# Altium footprint library R7S921041VCBGBC0.PcbLib: 3 footprints
Each footprint in its own frame and in the unit in brackets; x right, y up, seen from the top. Pads: shape width x height; smd on the part's side, far side on the other; paste and mask are expansions set on the pad; w line width, h text height; cw(c..) or ccw(c..) is an arc to the next point about the centre after c.
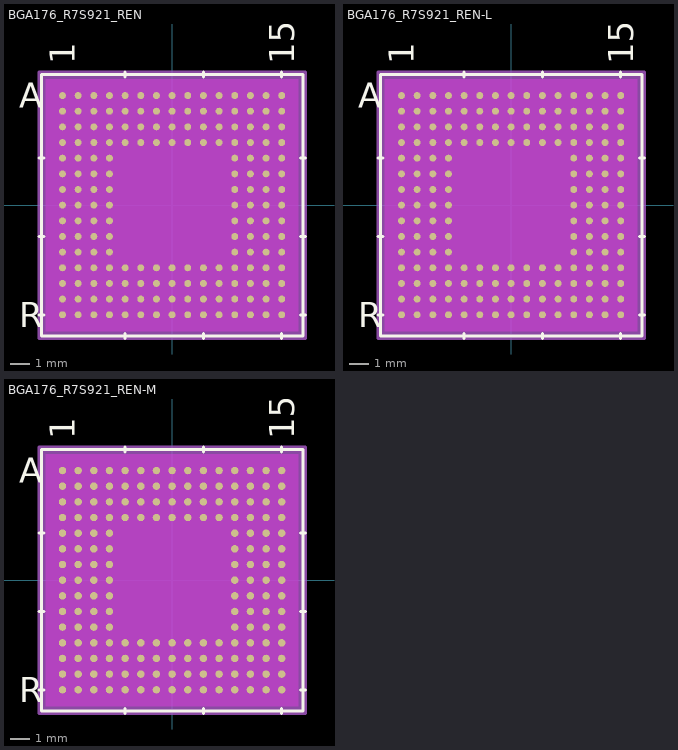
[diagram p0: the footprints below, top view; thin cyan lines are the x and y axes]

## BGA176_R7S921_REN [mil]
pads (176):
  round 14 smd paste+0 mask+0: A1(-220.5,220.5) A2(-189,220.5) A3(-157.5,220.5) A4(-126,220.5) A5(-94.5,220.5) A6(-63,220.5) A7(-31.5,220.5) A8(0,220.5) A9(31.5,220.5) A10(63,220.5) A11(94.5,220.5) A12(126,220.5) A13(157.5,220.5) A14(189,220.5) A15(220.5,220.5) B1(-220.5,189) B2(-189,189) B3(-157.5,189) B4(-126,189) B5(-94.5,189) B6(-63,189) B7(-31.5,189) B8(0,189) B9(31.5,189) B10(63,189) B11(94.5,189) B12(126,189) B13(157.5,189) B14(189,189) B15(220.5,189) C1(-220.5,157.5) C2(-189,157.5) C3(-157.5,157.5) C4(-126,157.5) C5(-94.5,157.5) C6(-63,157.5) C7(-31.5,157.5) C8(0,157.5) C9(31.5,157.5) C10(63,157.5) C11(94.5,157.5) C12(126,157.5) C13(157.5,157.5) C14(189,157.5) C15(220.5,157.5) D1(-220.5,126) D2(-189,126) D3(-157.5,126) D4(-126,126) D5(-94.5,126) D6(-63,126) D7(-31.5,126) D8(0,126) D9(31.5,126) D10(63,126) D11(94.5,126) D12(126,126) D13(157.5,126) D14(189,126) D15(220.5,126) E1(-220.5,94.5) E2(-189,94.5) E3(-157.5,94.5) E4(-126,94.5) E12(126,94.5) E13(157.5,94.5) E14(189,94.5) E15(220.5,94.5) F1(-220.5,63) F2(-189,63) F3(-157.5,63) F4(-126,63) F12(126,63) F13(157.5,63) F14(189,63) F15(220.5,63) G1(-220.5,31.5) G2(-189,31.5) G3(-157.5,31.5) G4(-126,31.5) G12(126,31.5) G13(157.5,31.5) G14(189,31.5) G15(220.5,31.5) H1(-220.5,0) H2(-189,0) H3(-157.5,0) H4(-126,0) H12(126,0) H13(157.5,0) H14(189,0) H15(220.5,0) J1(-220.5,-31.5) J2(-189,-31.5) J3(-157.5,-31.5) J4(-126,-31.5) J12(126,-31.5) J13(157.5,-31.5) J14(189,-31.5) J15(220.5,-31.5) K1(-220.5,-63) K2(-189,-63) K3(-157.5,-63) K4(-126,-63) K12(126,-63) K13(157.5,-63) K14(189,-63) K15(220.5,-63) L1(-220.5,-94.5) L2(-189,-94.5) L3(-157.5,-94.5) L4(-126,-94.5) L12(126,-94.5) L13(157.5,-94.5) L14(189,-94.5) L15(220.5,-94.5) M1(-220.5,-126) M2(-189,-126) M3(-157.5,-126) M4(-126,-126) M5(-94.5,-126) M6(-63,-126) M7(-31.5,-126) M8(0,-126) M9(31.5,-126) M10(63,-126) M11(94.5,-126) M12(126,-126) M13(157.5,-126) M14(189,-126) M15(220.5,-126) N1(-220.5,-157.5) N2(-189,-157.5) N3(-157.5,-157.5) N4(-126,-157.5) N5(-94.5,-157.5) N6(-63,-157.5) N7(-31.5,-157.5) N8(0,-157.5) N9(31.5,-157.5) N10(63,-157.5) N11(94.5,-157.5) N12(126,-157.5) N13(157.5,-157.5) N14(189,-157.5) N15(220.5,-157.5) P1(-220.5,-189) P2(-189,-189) P3(-157.5,-189) P4(-126,-189) P5(-94.5,-189) P6(-63,-189) P7(-31.5,-189) P8(0,-189) P9(31.5,-189) P10(63,-189) P11(94.5,-189) P12(126,-189) P13(157.5,-189) P14(189,-189) P15(220.5,-189) R1(-220.5,-220.5) R2(-189,-220.5) R3(-157.5,-220.5) R4(-126,-220.5) R5(-94.5,-220.5) R6(-63,-220.5) R7(-31.5,-220.5) R8(0,-220.5) R9(31.5,-220.5) R10(63,-220.5) R11(94.5,-220.5) R12(126,-220.5) R13(157.5,-220.5) R14(189,-220.5) R15(220.5,-220.5)
Top Overlay:
  lines w6: -268,-220.5 -258,-220.5 ; -268,-63 -258,-63 ; -268,94.5 -258,94.5 ; -94.5,-268 -94.5,-258 ; -94.5,258 -94.5,268 ; 63,-268 63,-258 ; 63,258 63,268 ; 220.5,-268 220.5,-258 ; 220.5,258 220.5,268 ; 258,-220.5 268,-220.5 ; 258,-63 268,-63 ; 258,94.5 268,94.5 ; -263,-263 263,-263 263,263 -263,263 -263,-263
  text "A" at -308,195.5 h50
  text "R" at -308,-245.5 h50
  text "1" at -195.5,283 h50
  text "15" at 245.5,283 h50
Bottom Overlay:
  text "A" at -283,195.5 h50
  text "R" at -283,-245.5 h50
  text "1" at -245.5,283 h50
  text "15" at 195.5,283 h50
Keep-Out Layer:
  region: -253.75,-253.75 -253.75,253.75 253.75,253.75 253.75,-253.75
Mechanical 13:
  lines w1: -258,242.25 -242.25,258 ; -258,-258 258,-258 258,258 -258,258 -258,-258
  text "A" at -308,195.5 h50
  text "R" at -308,-245.5 h50
  text "1" at -195.5,283 h50
  text "15" at 245.5,283 h50
Mechanical 15:
  region: 268,-268 -268,-268 -268,268 268,268
  lines w6: -268,-268 -268,268 268,268 268,-268 -268,-268
3D body "BGA176_R7S921_REN.step": height 55.12, standoff 0.02, extent -257.99,-257.99 257.99,257.99

## BGA176_R7S921_REN-L [mil]
pads (176):
  round 14 smd paste+0 mask+0: A1(-220.5,220.5) A2(-189,220.5) A3(-157.5,220.5) A4(-126,220.5) A5(-94.5,220.5) A6(-63,220.5) A7(-31.5,220.5) A8(0,220.5) A9(31.5,220.5) A10(63,220.5) A11(94.5,220.5) A12(126,220.5) A13(157.5,220.5) A14(189,220.5) A15(220.5,220.5) B1(-220.5,189) B2(-189,189) B3(-157.5,189) B4(-126,189) B5(-94.5,189) B6(-63,189) B7(-31.5,189) B8(0,189) B9(31.5,189) B10(63,189) B11(94.5,189) B12(126,189) B13(157.5,189) B14(189,189) B15(220.5,189) C1(-220.5,157.5) C2(-189,157.5) C3(-157.5,157.5) C4(-126,157.5) C5(-94.5,157.5) C6(-63,157.5) C7(-31.5,157.5) C8(0,157.5) C9(31.5,157.5) C10(63,157.5) C11(94.5,157.5) C12(126,157.5) C13(157.5,157.5) C14(189,157.5) C15(220.5,157.5) D1(-220.5,126) D2(-189,126) D3(-157.5,126) D4(-126,126) D5(-94.5,126) D6(-63,126) D7(-31.5,126) D8(0,126) D9(31.5,126) D10(63,126) D11(94.5,126) D12(126,126) D13(157.5,126) D14(189,126) D15(220.5,126) E1(-220.5,94.5) E2(-189,94.5) E3(-157.5,94.5) E4(-126,94.5) E12(126,94.5) E13(157.5,94.5) E14(189,94.5) E15(220.5,94.5) F1(-220.5,63) F2(-189,63) F3(-157.5,63) F4(-126,63) F12(126,63) F13(157.5,63) F14(189,63) F15(220.5,63) G1(-220.5,31.5) G2(-189,31.5) G3(-157.5,31.5) G4(-126,31.5) G12(126,31.5) G13(157.5,31.5) G14(189,31.5) G15(220.5,31.5) H1(-220.5,0) H2(-189,0) H3(-157.5,0) H4(-126,0) H12(126,0) H13(157.5,0) H14(189,0) H15(220.5,0) J1(-220.5,-31.5) J2(-189,-31.5) J3(-157.5,-31.5) J4(-126,-31.5) J12(126,-31.5) J13(157.5,-31.5) J14(189,-31.5) J15(220.5,-31.5) K1(-220.5,-63) K2(-189,-63) K3(-157.5,-63) K4(-126,-63) K12(126,-63) K13(157.5,-63) K14(189,-63) K15(220.5,-63) L1(-220.5,-94.5) L2(-189,-94.5) L3(-157.5,-94.5) L4(-126,-94.5) L12(126,-94.5) L13(157.5,-94.5) L14(189,-94.5) L15(220.5,-94.5) M1(-220.5,-126) M2(-189,-126) M3(-157.5,-126) M4(-126,-126) M5(-94.5,-126) M6(-63,-126) M7(-31.5,-126) M8(0,-126) M9(31.5,-126) M10(63,-126) M11(94.5,-126) M12(126,-126) M13(157.5,-126) M14(189,-126) M15(220.5,-126) N1(-220.5,-157.5) N2(-189,-157.5) N3(-157.5,-157.5) N4(-126,-157.5) N5(-94.5,-157.5) N6(-63,-157.5) N7(-31.5,-157.5) N8(0,-157.5) N9(31.5,-157.5) N10(63,-157.5) N11(94.5,-157.5) N12(126,-157.5) N13(157.5,-157.5) N14(189,-157.5) N15(220.5,-157.5) P1(-220.5,-189) P2(-189,-189) P3(-157.5,-189) P4(-126,-189) P5(-94.5,-189) P6(-63,-189) P7(-31.5,-189) P8(0,-189) P9(31.5,-189) P10(63,-189) P11(94.5,-189) P12(126,-189) P13(157.5,-189) P14(189,-189) P15(220.5,-189) R1(-220.5,-220.5) R2(-189,-220.5) R3(-157.5,-220.5) R4(-126,-220.5) R5(-94.5,-220.5) R6(-63,-220.5) R7(-31.5,-220.5) R8(0,-220.5) R9(31.5,-220.5) R10(63,-220.5) R11(94.5,-220.5) R12(126,-220.5) R13(157.5,-220.5) R14(189,-220.5) R15(220.5,-220.5)
Top Overlay:
  lines w6: -268,-220.5 -258,-220.5 ; -268,-63 -258,-63 ; -268,94.5 -258,94.5 ; -94.5,-268 -94.5,-258 ; -94.5,258 -94.5,268 ; 63,-268 63,-258 ; 63,258 63,268 ; 220.5,-268 220.5,-258 ; 220.5,258 220.5,268 ; 258,-220.5 268,-220.5 ; 258,-63 268,-63 ; 258,94.5 268,94.5 ; -263,-263 263,-263 263,263 -263,263 -263,-263
  text "A" at -308,195.5 h50
  text "R" at -308,-245.5 h50
  text "1" at -195.5,283 h50
  text "15" at 245.5,283 h50
Bottom Overlay:
  text "A" at -283,195.5 h50
  text "R" at -283,-245.5 h50
  text "1" at -245.5,283 h50
  text "15" at 195.5,283 h50
Keep-Out Layer:
  region: -253.75,-253.75 -253.75,253.75 253.75,253.75 253.75,-253.75
Mechanical 13:
  lines w1: -258,242.25 -242.25,258 ; -258,-258 258,-258 258,258 -258,258 -258,-258
  text "A" at -308,195.5 h50
  text "R" at -308,-245.5 h50
  text "1" at -195.5,283 h50
  text "15" at 245.5,283 h50
Mechanical 15:
  region: 268,-268 -268,-268 -268,268 268,268
  lines w6: -268,-268 -268,268 268,268 268,-268 -268,-268
3D body "BGA176_R7S921_REN.step": height 55.12, standoff 0.02, extent -257.99,-257.99 257.99,257.99

## BGA176_R7S921_REN-M [mil]
pads (176):
  round 15 smd paste+0 mask+0: A1(-220.5,220.5) A2(-189,220.5) A3(-157.5,220.5) A4(-126,220.5) A5(-94.5,220.5) A6(-63,220.5) A7(-31.5,220.5) A8(0,220.5) A9(31.5,220.5) A10(63,220.5) A11(94.5,220.5) A12(126,220.5) A13(157.5,220.5) A14(189,220.5) A15(220.5,220.5) B1(-220.5,189) B2(-189,189) B3(-157.5,189) B4(-126,189) B5(-94.5,189) B6(-63,189) B7(-31.5,189) B8(0,189) B9(31.5,189) B10(63,189) B11(94.5,189) B12(126,189) B13(157.5,189) B14(189,189) B15(220.5,189) C1(-220.5,157.5) C2(-189,157.5) C3(-157.5,157.5) C4(-126,157.5) C5(-94.5,157.5) C6(-63,157.5) C7(-31.5,157.5) C8(0,157.5) C9(31.5,157.5) C10(63,157.5) C11(94.5,157.5) C12(126,157.5) C13(157.5,157.5) C14(189,157.5) C15(220.5,157.5) D1(-220.5,126) D2(-189,126) D3(-157.5,126) D4(-126,126) D5(-94.5,126) D6(-63,126) D7(-31.5,126) D8(0,126) D9(31.5,126) D10(63,126) D11(94.5,126) D12(126,126) D13(157.5,126) D14(189,126) D15(220.5,126) E1(-220.5,94.5) E2(-189,94.5) E3(-157.5,94.5) E4(-126,94.5) E12(126,94.5) E13(157.5,94.5) E14(189,94.5) E15(220.5,94.5) F1(-220.5,63) F2(-189,63) F3(-157.5,63) F4(-126,63) F12(126,63) F13(157.5,63) F14(189,63) F15(220.5,63) G1(-220.5,31.5) G2(-189,31.5) G3(-157.5,31.5) G4(-126,31.5) G12(126,31.5) G13(157.5,31.5) G14(189,31.5) G15(220.5,31.5) H1(-220.5,0) H2(-189,0) H3(-157.5,0) H4(-126,0) H12(126,0) H13(157.5,0) H14(189,0) H15(220.5,0) J1(-220.5,-31.5) J2(-189,-31.5) J3(-157.5,-31.5) J4(-126,-31.5) J12(126,-31.5) J13(157.5,-31.5) J14(189,-31.5) J15(220.5,-31.5) K1(-220.5,-63) K2(-189,-63) K3(-157.5,-63) K4(-126,-63) K12(126,-63) K13(157.5,-63) K14(189,-63) K15(220.5,-63) L1(-220.5,-94.5) L2(-189,-94.5) L3(-157.5,-94.5) L4(-126,-94.5) L12(126,-94.5) L13(157.5,-94.5) L14(189,-94.5) L15(220.5,-94.5) M1(-220.5,-126) M2(-189,-126) M3(-157.5,-126) M4(-126,-126) M5(-94.5,-126) M6(-63,-126) M7(-31.5,-126) M8(0,-126) M9(31.5,-126) M10(63,-126) M11(94.5,-126) M12(126,-126) M13(157.5,-126) M14(189,-126) M15(220.5,-126) N1(-220.5,-157.5) N2(-189,-157.5) N3(-157.5,-157.5) N4(-126,-157.5) N5(-94.5,-157.5) N6(-63,-157.5) N7(-31.5,-157.5) N8(0,-157.5) N9(31.5,-157.5) N10(63,-157.5) N11(94.5,-157.5) N12(126,-157.5) N13(157.5,-157.5) N14(189,-157.5) N15(220.5,-157.5) P1(-220.5,-189) P2(-189,-189) P3(-157.5,-189) P4(-126,-189) P5(-94.5,-189) P6(-63,-189) P7(-31.5,-189) P8(0,-189) P9(31.5,-189) P10(63,-189) P11(94.5,-189) P12(126,-189) P13(157.5,-189) P14(189,-189) P15(220.5,-189) R1(-220.5,-220.5) R2(-189,-220.5) R3(-157.5,-220.5) R4(-126,-220.5) R5(-94.5,-220.5) R6(-63,-220.5) R7(-31.5,-220.5) R8(0,-220.5) R9(31.5,-220.5) R10(63,-220.5) R11(94.5,-220.5) R12(126,-220.5) R13(157.5,-220.5) R14(189,-220.5) R15(220.5,-220.5)
Top Overlay:
  lines w6: -268,-220.5 -258,-220.5 ; -268,-63 -258,-63 ; -268,94.5 -258,94.5 ; -94.5,-268 -94.5,-258 ; -94.5,258 -94.5,268 ; 63,-268 63,-258 ; 63,258 63,268 ; 220.5,-268 220.5,-258 ; 220.5,258 220.5,268 ; 258,-220.5 268,-220.5 ; 258,-63 268,-63 ; 258,94.5 268,94.5 ; -263,-263 263,-263 263,263 -263,263 -263,-263
  text "A" at -308,195.5 h50
  text "R" at -308,-245.5 h50
  text "1" at -195.5,283 h50
  text "15" at 245.5,283 h50
Bottom Overlay:
  text "A" at -283,195.5 h50
  text "R" at -283,-245.5 h50
  text "1" at -245.5,283 h50
  text "15" at 195.5,283 h50
Keep-Out Layer:
  region: -253.75,-253.75 -253.75,253.75 253.75,253.75 253.75,-253.75
Mechanical 13:
  lines w1: -258,242.25 -242.25,258 ; -258,-258 258,-258 258,258 -258,258 -258,-258
  text "A" at -308,195.5 h50
  text "R" at -308,-245.5 h50
  text "1" at -195.5,283 h50
  text "15" at 245.5,283 h50
Mechanical 15:
  region: 268,-268 -268,-268 -268,268 268,268
  lines w6: -268,-268 -268,268 268,268 268,-268 -268,-268
3D body "BGA176_R7S921_REN.step": height 55.12, standoff 0.02, extent -257.99,-257.99 257.99,257.99